# Altium footprint library Diodes.PcbLib: 17 footprints (part 1 of 2)
Each footprint in its own frame and in the unit in brackets; x right, y up, seen from the top. Pads: shape width x height; smd on the part's side, far side on the other; paste and mask are expansions set on the pad; w line width, h text height; cw(c..) or ccw(c..) is an arc to the next point about the centre after c.
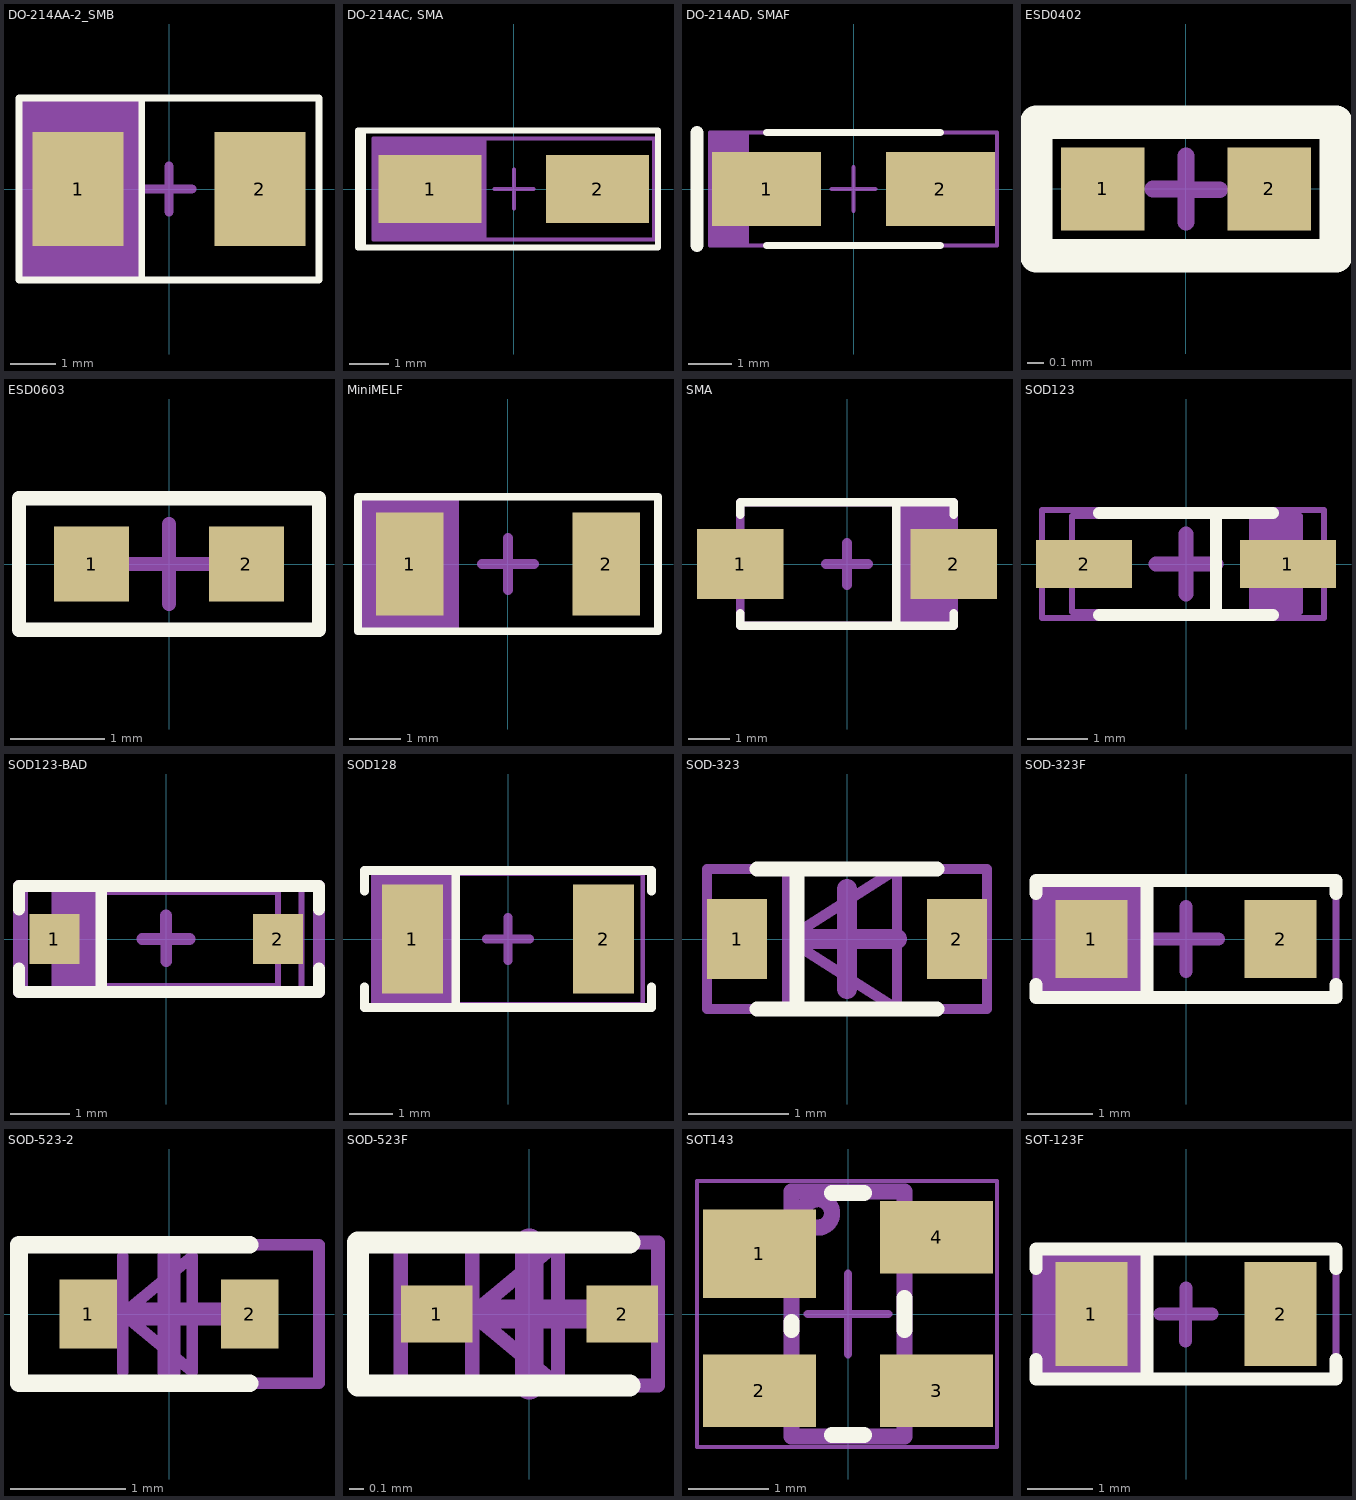
[diagram p0: the footprints below, top view; thin cyan lines are the x and y axes]

## DO-214AA-2_SMB [mm]
pads (2):
  rect 2x2.5 smd: 1(-2,0) 2(2,0)
Top Overlay:
  lines w0.153: -0.6,-2 -0.6,2 ; -3.3,-2 3.3,-2 3.3,2 -3.3,2 -3.3,-2
Top Assembly:
  rectangle: -3.3,-2 -0.7,2
  lines w0.1: -0.7,-2 -0.7,2 ; -3.3,-2 -3.3,2 3.3,2 3.3,-2 -3.3,-2
  text "'.Designator'" at -4.532,-0.333 h0.8
Top Courtyard:
  lines w0.1: -0.7,-2 -0.7,2 ; -3.3,-2 -3.3,2 3.3,2 3.3,-2 -3.3,-2
  lines w0.2: -0.5,0 0.5,0 ; 0,-0.5 0,0.5
3D body "SMB (DO-214AA).step": height 2.45, standoff 0.03, extent -2.75,-1.95 2.75,1.95

## DO-214AC, SMA [mm]
pads (2):
  rect 2.65x1.75 smd: 1(-2.15,0) 2(2.15,0)
Top Overlay:
  region: -4,1.5 -3.8,1.5 -3.8,-1.5 -4,-1.5
  lines w0.153: -4,-1.5 -4,1.5 3.7,1.5 3.7,-1.5 -4,-1.5
Top Assembly:
  rectangle: -3.6,-1.3 -0.7,1.3
  lines w0.1: -3.6,-1.3 -3.6,1.3 3.6,1.3 3.6,-1.3 -3.6,-1.3
  text "'.Designator'" at -4.532,-0.333 h0.8
Top Courtyard:
  lines w0.1: -0.5,0 0.5,0 ; 0,-0.5 0,0.5 ; -4,-1.5 3.7,-1.5 3.7,1.5 -4,1.5 -4,-1.5
3D body "User Library-DO-214AC SMA.STEP": height 2.3, standoff -0.1, extent -2.6,-1.3 2.6,1.3

## DO-214AD, SMAF [mm]
pads (2):
  rect 2.5x1.7 smd mask+0.05: 1(-2,0) 2(2,0)
Top Overlay:
  lines w0.153: -2,-1.3 2,-1.3 ; -2,1.3 2,1.3
  lines w0.3: -3.6,-1.3 -3.6,1.3
Top Assembly:
  rectangle: -3.3,-1.3 -2.4,1.3
  lines w0.1: -3.3,-1.3 3.3,-1.3 3.3,1.3 -3.3,1.3 -3.3,-1.3
  text "'.Designator'" at -4.532,-0.333 h0.8
Top Courtyard:
  lines w0.1: -0.5,0 0.5,0 ; 0,-0.5 0,0.5 ; -3.3,-1.3 -3.3,1.3 3.3,1.3 3.3,-1.3 -3.3,-1.3
3D body "User Library-DO-214AD.STEP": height 1, standoff 0, extent -2.35,-1.25 2.35,1.25

## ESD0402 [mm]
pads (2):
  rect 0.5x0.5 smd: 1(-0.5,0) 2(0.5,0)
Top Overlay:
  lines w0.2: -0.9,-0.4 0.9,-0.4 0.9,0.4 -0.9,0.4 -0.9,-0.4
Top Assembly:
  lines w0.1: -0.9,-0.4 -0.9,0.4 0.9,0.4 0.9,-0.4 -0.9,-0.4
  text "'.Designator'" at -4.532,-0.333 h0.8
Top Courtyard:
  lines w0.1: -0.2,0 0,0 ; 0,0.2 0,0 ; 0.003,-0.004 0.203,-0.004 ; 0,0 0,-0.2 0,0 ; -0.9,-0.4 0.9,-0.4 0.9,0.4 -0.9,0.4 -0.9,-0.4
3D body "User Library-d0402h025.STEP": height 0.25, standoff 0, extent -0.5,-0.25 0.5,0.25

## ESD0603 [mm]
pads (2):
  rect 0.8x0.8 smd: 1(-0.825,0) 2(0.825,0)
Top Overlay:
  lines w0.153: -1.6,-0.7 1.6,-0.7 1.6,0.7 -1.6,0.7 -1.6,-0.7
Top Assembly:
  lines w0.1: -1.6,-0.7 -1.6,0.7 1.6,0.7 1.6,-0.7 -1.6,-0.7
  text "'.Designator'" at -1.322,1.07 h0.8
Top Courtyard:
  lines w0.1: -1.6,-0.7 1.6,-0.7 1.6,0.7 -1.6,0.7 -1.6,-0.7
  lines w0.153: -0.425,0 0.425,0 ; 0,-0.425 0,0.425
3D body "ferrite_bead_0603.STEP": height 0.8, standoff 0, extent -0.8,-0.4 0.8,0.4

## MiniMELF [mm]
pads (2):
  rect 1.3x2 smd: 1(-1.9,0) 2(1.9,0)
Top Overlay:
  lines w0.153: -2.9,-1.3 2.9,-1.3 2.9,1.3 -2.9,1.3 -2.9,-1.3
Top Assembly:
  rectangle: -2.9,-1.3 -1,1.3
  lines w0.1: -1,-1.3 -1,1.3 ; -2.9,-1.3 -2.9,1.3 2.9,1.3 2.9,-1.3 -2.9,-1.3
  text "'.Designator'" at -4.532,-0.333 h0.8
Top Courtyard:
  lines w0.1: -2.9,-1.3 -2.9,1.3 2.9,1.3 2.9,-1.3 -2.9,-1.3
  lines w0.2: -0.5,0 0.5,0 ; 0,-0.5 0,0.5
3D body "MiniMelf-2.step": height 1.6, standoff 0, extent -1.88,-0.794 1.82,0.794

## SMA [mm]
pads (2):
  rect 2.1x1.7 smd paste+0 mask+0: 1(-2.6,0) 2(2.6,0)
Top Overlay:
  lines w0.2: -2.6,-1.2 -2.6,-1.5 -1.2,-1.5 0.5,-1.5 2.6,-1.5 2.6,-1.2 ; -2.6,1.2 -2.6,1.5 -0.5,1.5 1.2,1.5 ; 1.2,-1.5 1.2,1.5 ; 2.6,1.2 2.6,1.5 1.2,1.5
Top Assembly:
  rectangle: 1.225,-1.5 2.6,1.5
  lines w0.1: 1.225,-1.5 1.225,1.5 ; -2.6,-1.5 2.6,-1.5 2.6,1.5 -2.6,1.5 -2.6,-1.5
  text "'.Designator'" at -2.447,1.92 h0.8
Top Courtyard:
  lines w0.1: -2.6,-1.5 -2.6,1.5 2.6,1.5 2.6,-1.5 -2.6,-1.5
  lines w0.254: -0.5,0 0.5,0 ; 0,-0.5 0,0.5
Mechanical 13:
  lines w0.2: -2.6,-1.5 -2.6,1.5 2.6,1.5 2.6,-1.5 -2.6,-1.5
Mechanical 16:
  lines w0.1: -0.5,0 0.5,0 ; 0,-0.5 0,0.5
3D body "User Library-DO-214AC SMA.STEP": height 2.4, standoff 0, extent -2.6,-1.3 2.6,1.3

## SOD123 [mm]
pads (2):
  rect 1.6x0.8 smd: 1(1.7,0) 2(-1.7,0)
Top Overlay:
  lines w0.2: -1.45,-0.85 1.45,-0.85 ; -1.45,0.85 1.45,0.85 ; 0.5,-0.85 0.5,0.85
Top Assembly:
  region: 1.9,0.8 1.1,0.8 1.1,-0.8 1.9,-0.8
  lines w0.1: 1.1,-0.8 1.1,0.8 ; -1.9,-0.8 1.9,-0.8 1.9,0.8 -1.9,0.8 -1.9,-0.8
  text "'.Designator'" at -4.532,-0.333 h0.8
Top Courtyard:
  lines w0.1: -2.403,-0.9 -2.403,0.9 2.297,0.9 2.297,-0.9 -2.403,-0.9
  lines w0.254: -0.5,0 0.5,0 ; 0,-0.5 0,0.5
3D body "User Library-SOD-123_DiodesInc.step": height 1.42, standoff -0.03, extent -1.925,-0.85 1.925,0.85

## SOD123-BAD [mm]
pads (2):
  rect 0.85x0.85 smd: 1(-1.9,0) 2(1.9,0)
Top Overlay:
  lines w0.2: -2.5,-0.5 -2.5,-0.9 2.6,-0.9 2.6,-0.5 ; -2.5,0.5 -2.5,0.9 2.6,0.9 2.6,0.5 ; -1.1,-0.9 -1.1,0.9
  text "." at -2.172,1.353 h0.8
Top Assembly:
  rectangle: -1.9,-0.8 -1.1,0.8
  lines w0.1: -1.1,-0.8 -1.1,0.8 ; -1.9,-0.8 1.9,-0.8 1.9,0.8 -1.9,0.8 -1.9,-0.8
  text "'.Designator'" at -2.347,1.32 h0.8
  text "CHECK" at -1.347,2.553 h0.8
Top Courtyard:
  lines w0.1: -2.4,-0.9 -2.4,0.9 2.3,0.9 2.3,-0.9 -2.4,-0.9
  lines w0.2: -0.405,-0.001 -0.005,-0.001 ; 0,0.4 0,0 0.4,0 ; 0.003,-0.38 0.003,0.02
Mechanical 13:
  lines w0.2: -2.5,-0.9 2.6,-0.9 2.6,0.9 -2.5,0.9 -2.5,-0.9
3D body "CircuitWorks-SOD123.STEP": height 1.27, standoff 0, extent -1.85,-0.8 1.85,0.8

## SOD128 [mm] "SODFL, 2-Leads, Body 2,50x4,70mm, IPC Medium Density"
height 1.1
pads (2):
  rect 1.4x2.5 smd: 1(-2.2,0) 2(2.2,0)
Top Overlay:
  lines w0.2: -3.3,-1.1 -3.3,-1.575 3.3,-1.575 3.3,-1.1 ; -3.3,1.1 -3.3,1.575 3.3,1.575 3.3,1.1 ; -1.2,-1.5 -1.2,0 -1.2,1.5
Top Assembly:
  rectangle: -3.1,-1.5 -1.2,1.5
  lines w0.1: -1.2,-1.5 -1.2,1.5 ; -3.1,-1.5 3.1,-1.5 3.1,1.5 -3.1,1.5 -3.1,-1.5
  text "'.Designator'" at -3.147,1.995 h0.8
Top Courtyard:
  lines w0.1: -3.1,-1.5 3.1,-1.5 3.1,1.5 -3.1,1.5 -3.1,-1.5
  lines w0.2: -0.5,0 0.5,0 ; 0,-0.5 0,0.5
3D body "User Library-SOD128.STEP": height 1.1, standoff -0.01, extent -2.5,-1.35 2.5,1.35

## SOD-323 [mm]
pads (2):
  rect 0.6x0.8 smd: 1(-1.1,0) 2(1.1,0)
Top Overlay:
  lines w0.153: -0.9,-0.7 0.9,-0.7 ; -0.9,0.7 0.9,0.7 ; -0.5,-0.7 -0.5,0.7
Top Assembly:
  lines w0.1: -0.6,-0.7 -0.6,0.7 ; -1.4,-0.7 -1.4,0.7 1.4,0.7 1.4,-0.7 -1.4,-0.7 ; -0.6,0 0.5,-0.7 0.5,0.7 -0.6,0
  text "'.Designator'" at -4.532,1.267 h0.8
Top Courtyard:
  lines w0.1: -1.4,-0.7 -1.4,0.7 1.4,0.7 1.4,-0.7 -1.4,-0.7
  lines w0.2: -0.5,0 0.5,0 ; 0,-0.5 0,0.5
3D body "User Library-SOD-323F.STEP": height 0.79, standoff -0.08, extent -1.35,-0.675 1.35,0.675

## SOD-323F [mm]
pads (2):
  rect 1.1x1.2 smd: 1(-1.45,0) 2(1.45,0)
Top Overlay:
  lines w0.2: -2.3,-0.7 -2.3,-0.9 2.3,-0.9 2.3,-0.7 ; -2.3,0.7 -2.3,0.9 2.3,0.9 2.3,0.7 ; -0.6,-0.9 -0.6,0.9
  text "." at -1.697,1.403 h0.8
Top Assembly:
  rectangle: -2.3,-0.9 -0.6,0.9
  lines w0.1: -0.6,-0.9 -0.6,0.9 ; -2.3,-0.9 -2.3,0.9 2.3,0.9 2.3,-0.9 -2.3,-0.9
  text "'.Designator'" at -2.147,1.32 h0.8
Top Courtyard:
  lines w0.1: -2.3,-0.9 -2.3,0.9 2.3,0.9 2.3,-0.9 -2.3,-0.9
  lines w0.2: -0.5,0 0.5,0 ; 0,-0.5 0,0.5
3D body "User Library-SOD-323F.STEP": height 0.79, standoff -0.08, extent -1.325,-0.675 1.375,0.675

## SOD-523-2 [mm]
pads (2):
  rect 0.5x0.6 smd: 1(-0.7,0) 2(0.7,0)
Top Overlay:
  lines w0.153: 0.7,-0.6 -1.3,-0.6 -1.3,0.6 0.7,0.6
Top Assembly:
  lines w0.1: -0.4,-0.5 -0.4,0.5 ; -1.3,-0.6 1.3,-0.6 1.3,0.6 -1.3,0.6 -1.3,-0.6 ; -0.4,0 0.2,0.5 0.2,-0.5 -0.4,0
  text "'.Designator'" at -4.932,-1.633 h0.8
Top Courtyard:
  lines w0.1: -1.3,-0.6 -1.3,0.6 1.3,0.6 1.3,-0.6 -1.3,-0.6
  lines w0.2: -0.5,0 0.5,0 ; 0,-0.5 0,0.5
3D body "User Library-SOD523F.STEP": height 0.7, standoff 0, extent -0.85,-0.45 0.85,0.45

## SOD-523F [mm]
pads (2):
  rect 0.5x0.4 smd: 1(-0.65,0) 2(0.65,0)
Top Overlay:
  lines w0.153: 0.7,-0.5 -1.2,-0.5 -1.2,0.5 0.7,0.5
Top Assembly:
  lines w0.1: -0.4,-0.5 -0.4,0.5 ; -0.9,-0.5 -0.9,0.5 0.9,0.5 0.9,-0.5 -0.9,-0.5 ; -0.4,0 0.2,0.5 0.2,-0.5 -0.4,0
  text "'.Designator'" at -4.532,-0.333 h0.8
Top Courtyard:
  lines w0.1: -0.9,-0.5 -0.9,0.5 0.9,0.5 0.9,-0.5 -0.9,-0.5
  lines w0.2: -0.5,0 0.5,0 ; 0,-0.5 0,0.5
3D body "User Library-SOD523F.STEP": height 0.7, standoff 0, extent -0.85,-0.45 0.85,0.45

## SOT143 [mm]
pads (4):
  rect 1.4x1.1 smd: 1(-1.1,0.75)
  rect 1.4x0.9 smd: 2(-1.1,-0.95) 3(1.1,-0.95) 4(1.1,0.95)
Top Overlay:
  lines w0.2: -0.7,-0.2 -0.7,-0.1 ; -0.2,-1.5 0.2,-1.5 ; -0.2,1.5 0.2,1.5 ; 0.7,-0.2 0.7,0.2
  text "." at -1.297,2.003 h0.8
Top Assembly:
  circle w0.2: c-0.375,1.25 r0.177
  lines w0.2: -0.7,-1.52 -0.7,1.52 0.7,1.52 0.7,-1.52 -0.7,-1.52
  text "CHECK" at -1.209,4.103 h0.8
  text "'.Designator'" at -3.872,2.445 h0.8
Top Courtyard:
  lines w0.05: -1.875,-1.65 1.85,-1.65 1.85,1.65 -1.875,1.65 -1.875,-1.65
  lines w0.1: -0.5,0 0.5,0 ; 0,-0.5 0,0.5
3D body "User Library-sot143-2.STEP": height 1, standoff 0, extent -1.21,-1.46 1.21,1.46

## SOT-123F [mm]
pads (2):
  rect 1.1x1.6 smd: 1(-1.45,0) 2(1.45,0)
Top Overlay:
  lines w0.2: -2.3,-0.7 -2.3,-1 2.3,-1 2.3,-0.7 ; -2.3,0.7 -2.3,1 2.3,1 2.3,0.7 ; -0.6,-1 -0.6,0.1 -0.6,1
  text "." at -1.797,1.428 h0.8
Top Assembly:
  rectangle: -2.3,-1 -0.6,1
  lines w0.1: -0.6,-1 -0.6,1 ; -2.3,-1 2.3,-1 2.3,1 -2.3,1 -2.3,-1
  text "'.Designator'" at -4.072,1.87 h0.8
Top Courtyard:
  lines w0.1: -2.3,-1 -2.3,1 2.3,1 2.3,-1 -2.3,-1
  lines w0.2: -0.4,0 0,0 ; -0.007,-0.412 -0.007,-0.012 ; 0,0.4 0,0 ; 0.4,0 0,0
3D body "User Library-SOD123F.STEP": height 1.2, standoff -0.01, extent -1.9,-0.85 1.85,0.85